# EAGLE library part ACCEL_3AXIS_ADXL362 (library custom)
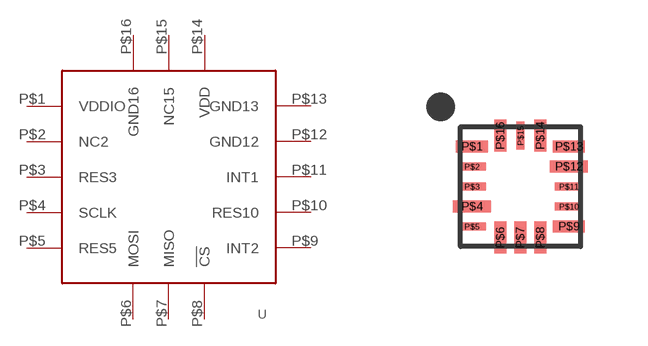
[diagram p40: symbol with the pads of ADXL362; footprint ADXL362]

Designator prefix -

## ACCEL_3AXIS_ADXL362X  [ADXL362]
P$1  VDDIO  pwr
P$2  NC2  nc
P$3  RES3  nc
P$4  SCLK  in
P$5  RES5  nc
P$6  MOSI  in
P$7  MISO  out
P$8  !CS  in
P$9  INT2  out
P$10  RES10  nc
P$11  INT1  out
P$12  GND12  pwr
P$13  GND13  pwr
P$14  VDD  pwr
P$15  NC15  nc
P$16  GND16  pwr

## Footprint ADXL362 (pad centres in mm)
smd 0.8 x 0.3: P$1 -1.212,1; P$9 1.212,-1; P$13 1.212,1
smd 0.7 x 0.2: P$2 -1.212,0.5; P$3 -1.212,0; P$5 -1.212,-1; P$10 1.212,-0.5; P$11 1.212,0
smd 0.952 x 0.3: P$4 -1.212,-0.5; P$12 1.212,0.5
smd 0.3 x 0.8: P$6 -0.5,-1.275; P$7 0,-1.275; P$8 0.5,-1.275; P$14 0.5,1.275; P$16 -0.5,1.275
smd 0.2 x 0.7: P$15 0,1.275